# Altium schematic symbol library Regulators.SchLib: 376 symbols (part 4 of 4)
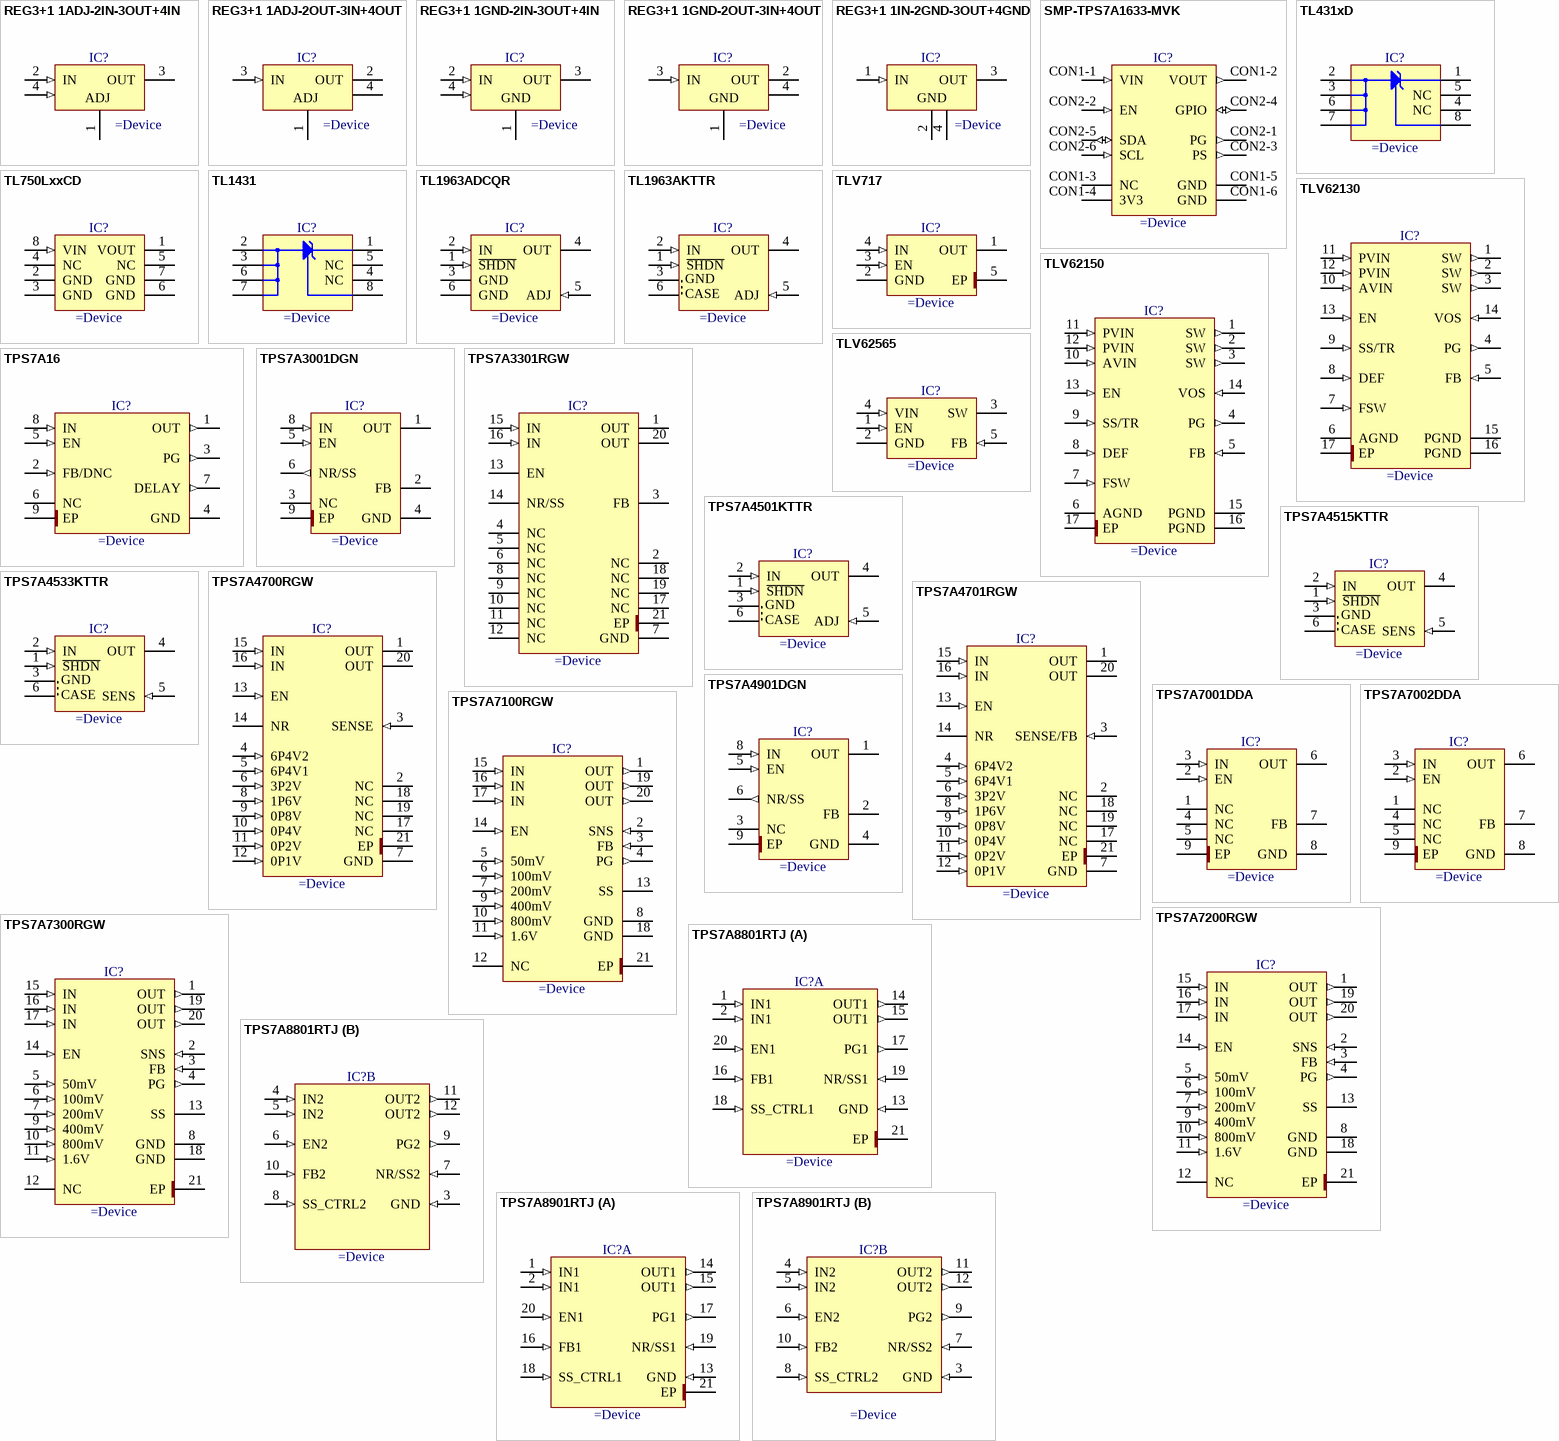
[diagram p15: symbols REG3+1 1ADJ-2IN-3OUT+4IN to TPS7A8901RTJ]

## TPS7A7200RGW
designator IC?
2-A, Fast-Transient, Low-Dropout Voltage Regulator
pins: 1 OUT (out), 2 SNS (in), 3 FB (in), 4 PG (out), 5 50mV (in), 6 100mV (in), 7 200mV (in), 8 GND (power), 9 400mV (in), 10 800mV (in), 11 1.6V (in), 12 NC, 13 SS, 14 EN (in), 15 IN (in), 16 IN (in), 17 IN (in), 18 GND (power), 19 OUT (out), 20 OUT (out), 21 EP (power)

## TPS7A7300RGW
designator IC?
3-A, Fast-Transient, Low-Dropout Voltage Regulator
pins: 1 OUT (out), 2 SNS (in), 3 FB (in), 4 PG (out), 5 50mV (in), 6 100mV (in), 7 200mV (in), 8 GND (power), 9 400mV (in), 10 800mV (in), 11 1.6V (in), 12 NC, 13 SS, 14 EN (in), 15 IN (in), 16 IN (in), 17 IN (in), 18 GND (power), 19 OUT (out), 20 OUT (out), 21 EP (power)

## TPS7A8801RTJ
designator IC?
Dual, 1-A, Low-Noise (3.8-μVRMS), Low-Dropout Voltage Regulator
part A pins: 1 IN1 (in), 2 IN1 (in), 13 GND (in), 14 OUT1 (out), 15 OUT1 (out), 16 FB1 (in), 17 PG1 (out), 18 SS_CTRL1 (in), 19 NR/SS1 (in), 20 EN1 (in), 21 EP (power)
part B pins: 3 GND (in), 4 IN2 (in), 5 IN2 (in), 6 EN2 (in), 7 NR/SS2 (in), 8 SS_CTRL2 (in), 9 PG2 (out), 10 FB2 (in), 11 OUT2 (out), 12 OUT2 (out)

## TPS7A8901RTJ
designator IC?
Dual, 1-A, Low-Noise (3.8-μVRMS), Low-Dropout Voltage Regulator
part A pins: 1 IN1 (in), 2 IN1 (in), 13 GND (in), 14 OUT1 (out), 15 OUT1 (out), 16 FB1 (in), 17 PG1 (out), 18 SS_CTRL1 (in), 19 NR/SS1 (in), 20 EN1 (in), 21 EP (power)
part B pins: 3 GND (in), 4 IN2 (in), 5 IN2 (in), 6 EN2 (in), 7 NR/SS2 (in), 8 SS_CTRL2 (in), 9 PG2 (out), 10 FB2 (in), 11 OUT2 (out), 12 OUT2 (out)

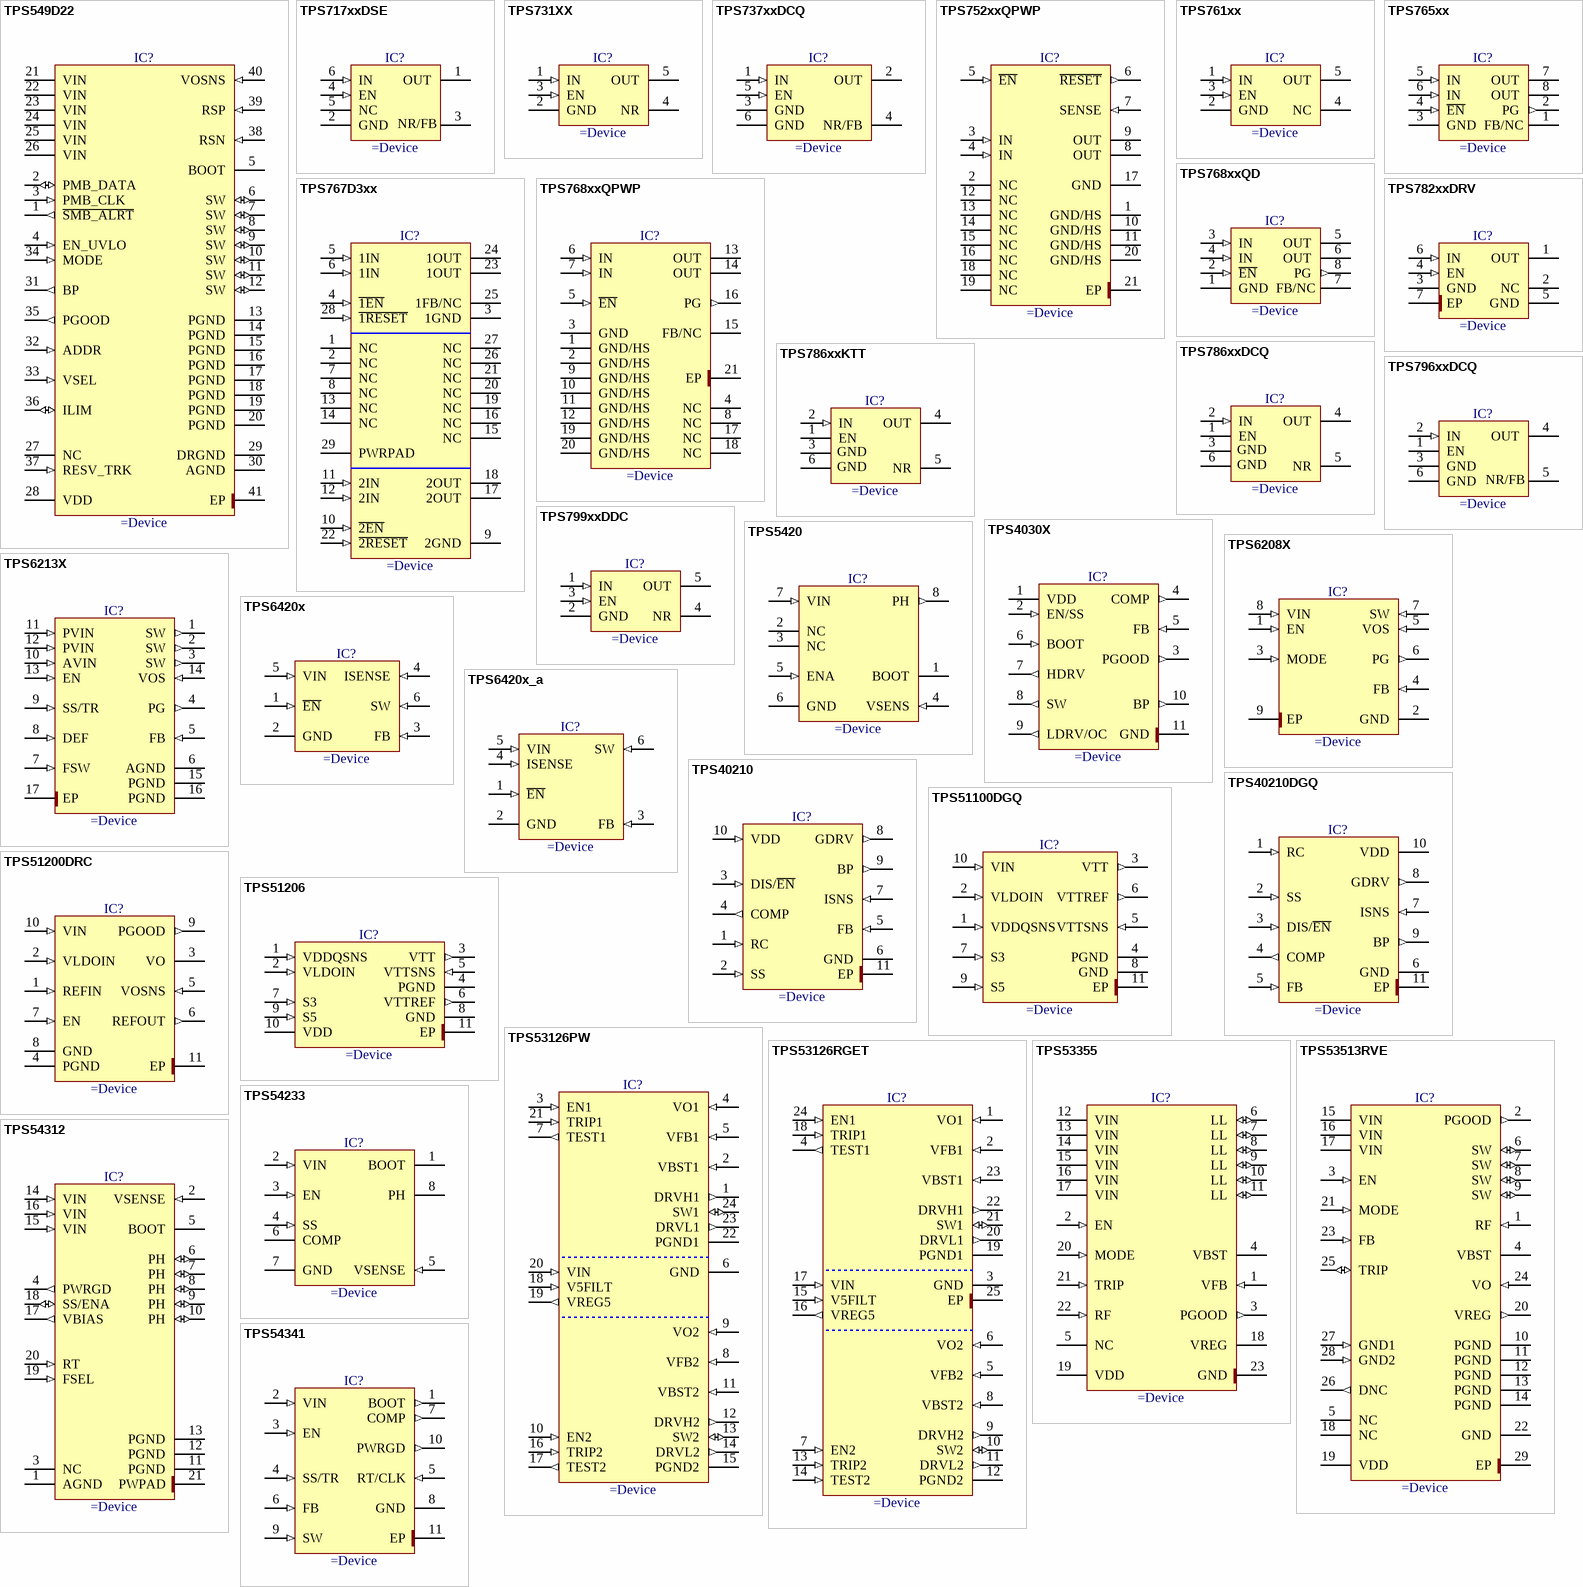
[diagram p10: symbols TPS549D22 to TPS54341]

## TPS549D22
designator IC?
1.5V to 16V Input, 40A SWIFT Synchronous Step-Down Converter With Full Differential Sense And PMBus
pins: 1 ~{SMB_ALRT} (out), 2 PMB_DATA (io), 3 PMB_CLK (in), 4 EN_UVLO (in), 5 BOOT (power), 6 SW (io), 7 SW (io), 8 SW (io), 9 SW (io), 10 SW (io), 11 SW (io), 12 SW (io), 13 PGND (power), 14 PGND (power), 15 PGND (power), 16 PGND (power), 17 PGND (power), 18 PGND (power), 19 PGND (power), 20 PGND (power), 21 VIN (power), 22 VIN (power), 23 VIN (power), 24 VIN (power), 25 VIN (power), 26 VIN (power), 27 NC, 28 VDD (power), 29 DRGND (power), 30 AGND (power), 31 BP (out), 32 ADDR (in), 33 VSEL (in), 34 MODE (in), 35 PGOOD (out), 36 ILIM (io), 37 RESV_TRK (in), 38 RSN (in), 39 RSP (in), 40 VOSNS (in), 41 EP (power)

## TPS717xxDSE
designator IC?
Low-Noise, High-PSRR, Low-Dropout 150mA Linear Regulator
pins: 1 OUT (power), 2 GND (power), 3 NR/FB, 4 EN (in), 5 NC, 6 IN (in)

## TPS731XX
designator IC?
150mA, Cap free, Low Dropout Regulator With Reverse Current Protection
pins: 1 IN (in), 2 GND (power), 3 EN (in), 4 NR, 5 OUT (power)

## TPS737xxDCQ
designator IC?
2.2V to 5.5V, 1-A Low-Dropout Regulator With Reverse Current Protection
pins: 1 IN (in), 2 OUT (power), 3 GND (power), 4 NR/FB, 5 EN (in), 6 GND (power)

## TPS752xxQPWP
designator IC?
Single Output, Fast Transient Response 2A Low-Dropout Voltage Regulator
pins: 1 GND/HS (power), 2 NC, 3 IN (in), 4 IN (in), 5 ~{EN} (in), 6 ~{RESET} (out), 7 SENSE (in), 8 OUT (power), 9 OUT (power), 10 GND/HS (power), 11 GND/HS (power), 12 NC, 13 NC, 14 NC, 15 NC, 16 NC, 17 GND (power), 18 NC, 19 NC, 20 GND/HS (power), 21 EP (power)

## TPS761xx
designator IC?
5V 100mA Low-Power Low-Dropout Linear Regulator
pins: 1 IN (in), 2 GND (power), 3 EN (in), 4 NC, 5 OUT (power)

## TPS765xx
designator IC?
Ultra-Low Quiescient Current 150mA Low-Dropout Voltage Regulator
pins: 1 FB/NC, 2 PG (out), 3 GND (power), 4 ~{EN} (in), 5 IN (in), 6 IN (in), 7 OUT (power), 8 OUT (power)

## TPS767D3xx
designator IC?
Dual-Output Low-Dropout Voltage Regulator
pins: 1 NC, 2 NC, 3 1GND (power), 4 ~{1EN} (in), 5 1IN (in), 6 1IN (in), 7 NC, 8 NC, 9 2GND (power), 10 ~{2EN} (in), 11 2IN (in), 12 2IN (in), 13 NC, 14 NC, 15 NC, 16 NC, 17 2OUT (power), 18 2OUT (power), 19 NC, 20 NC, 21 NC, 22 ~{2RESET} (in), 23 1OUT (power), 24 1OUT (power), 25 1FB/NC, 26 NC, 27 NC, 28 ~{1RESET} (in), 29 PWRPAD

## TPS768xxQD
designator IC?
1A Low-Dropout Voltage Regulator, Fast Transient Reponse
pins: 1 GND (power), 2 ~{EN} (in), 3 IN (in), 4 IN (in), 5 OUT (power), 6 OUT (power), 7 FB/NC, 8 PG (out)

## TPS768xxQPWP
designator IC?
1A Low-Dropout Voltage Regulator, Fast Transient Reponse
pins: 1 GND/HS (power), 2 GND/HS (power), 3 GND (power), 4 NC, 5 ~{EN} (in), 6 IN (in), 7 IN (in), 8 NC, 9 GND/HS (power), 10 GND/HS (power), 11 GND/HS (power), 12 GND/HS (power), 13 OUT (power), 14 OUT (power), 15 FB/NC, 16 PG (out), 17 NC, 18 NC, 19 GND/HS (power), 20 GND/HS (power), 21 EP (power)

## TPS782xxDRV
designator IC?
1.8V, 150mA, Ultra-Low Quiescent Current Low-Dropout Linear Regulator
pins: 1 OUT (power), 2 NC, 3 GND (power), 4 EN (in), 5 GND (power), 6 IN (in), 7 EP (power)

## TPS786xxDCQ
designator IC?
Ultralow-Noise, High-PSRR, Fast, RF, 1.5A Low-Dropout Linear Regulator
pins: 1 EN (power), 2 IN (in), 3 GND (power), 4 OUT (power), 5 NR, 6 GND (power)

## TPS786xxKTT
designator IC?
Ultralow-Noise, High-PSRR, Fast, RF, 1.5A Low-Dropout Linear Regulator
pins: 1 EN (power), 2 IN (in), 3 GND (power), 4 OUT (power), 5 NR, 6 GND (power)

## TPS796xxDCQ
designator IC?
Ultralow-Noise, High-PSRR, Fast, RF, 1A Low-Dropout Linear Regulator
pins: 1 EN (power), 2 IN (in), 3 GND (power), 4 OUT (power), 5 NR/FB, 6 GND (power)

## TPS799xxDDC
designator IC?
200mA, Low Quiescent Current, Ultra-Low Noise, High PSRR Low Dropout Linear Regulator
pins: 1 IN (in), 2 GND (power), 3 EN (in), 4 NR, 5 OUT (power)

## TPS4030X
designator IC?
3-V to 20-V Input Synchronous Buck Controller
pins: 1 VDD (power), 2 EN/SS (in), 3 PGOOD (out), 4 COMP (out), 5 FB (in), 6 BOOT (in), 7 HDRV (out), 8 SW (out), 9 LDRV/OC (out), 10 BP (out), 11 GND (power)

## TPS5420
designator IC?
2A, Wide Input Range, Step-Down SWIFT Converter
pins: 1 BOOT, 2 NC, 3 NC, 4 VSENS (in), 5 ENA (in), 6 GND (power), 7 VIN (in), 8 PH (out)

## TPS6208X
designator IC?
1.2-A High-Efficiency, Step-Down Converter With DCS-Control™ And Snooze Mode
pins: 1 EN (in), 2 GND (power), 3 MODE (in), 4 FB (in), 5 VOS (in), 6 PG (out), 7 SW (in), 8 VIN (in), 9 EP

## TPS6213X
designator IC?
3V-17V 3A Step-Down Converter In 3x3 QFN Package
pins: 1 SW (out), 2 SW (out), 3 SW (out), 4 PG (out), 5 FB (in), 6 AGND (power), 7 FSW (in), 8 DEF (in), 9 SS/TR (in), 10 AVIN (in), 11 PVIN (in), 12 PVIN (in), 13 EN (in), 14 VOS (in), 15 PGND (power), 16 PGND (power), 17 EP (power)

## TPS6420x
designator IC?
Step-Down Controller
pins: 1 ~{EN} (in), 2 GND (power), 3 FB (in), 4 ISENSE (in), 5 VIN (in), 6 SW (in)

## TPS6420x_a
designator IC?
Step-Down Controller
pins: 1 ~{EN} (in), 2 GND (power), 3 FB (in), 4 ISENSE (in), 5 VIN (in), 6 SW (in)

## TPS40210
designator IC?
Wide-Input Voltage (4.5V to 52V) Input Current Mode Boost Controller
pins: 1 RC (in), 2 SS (in), 3 DIS/~{EN} (in), 4 COMP (out), 5 FB (in), 6 GND (power), 7 ISNS (in), 8 GDRV (out), 9 BP (out), 10 VDD (in), 11 EP (power)

## TPS40210DGQ
designator IC?
4.5V To 52v Input Current Mode Boost Controller
pins: 1 RC (in), 2 SS (in), 3 DIS/~{EN} (in), 4 COMP (out), 5 FB (in), 6 GND (power), 7 ISNS (in), 8 GDRV (out), 9 BP (out), 10 VDD (power), 11 EP (power)

## TPS51100DGQ
designator IC?
3A Sink/Source DDR Termination Regulator
pins: 1 VDDQSNS (in), 2 VLDOIN (in), 3 VTT (out), 4 PGND (power), 5 VTTSNS (in), 6 VTTREF (out), 7 S3 (in), 8 GND (power), 9 S5 (in), 10 VIN (in), 11 EP (power)

## TPS51200DRC
designator IC?
Sink/Source DDR Termination Regulator
pins: 1 REFIN (in), 2 VLDOIN (in), 3 VO (power), 4 PGND (power), 5 VOSNS (in), 6 REFOUT (out), 7 EN (in), 8 GND (power), 9 PGOOD (out), 10 VIN (in), 11 EP (power)

## TPS51206
designator IC?
2-A Peak Sink / Source DDR Termination Regulator With VTTREF Buffered Reference for DDR2, DDR3 and DDR3L
pins: 1 VDDQSNS (in), 2 VLDOIN (in), 3 VTT (out), 4 PGND (power), 5 VTTSNS (in), 6 VTTREF (out), 7 S3 (in), 8 GND (power), 9 S5 (in), 10 VDD (power), 11 EP (power)

## TPS53126PW
designator IC?
Dual Synchronous Step-Down Controller For Low Voltage Power Rails
pins: 1 DRVH1 (out), 2 VBST1 (in), 3 EN1 (in), 4 VO1 (in), 5 VFB1 (in), 6 GND (power), 7 TEST1 (out), 8 VFB2 (in), 9 VO2 (in), 10 EN2 (in), 11 VBST2 (in), 12 DRVH2 (out), 13 SW2 (io), 14 DRVL2 (out), 15 PGND2 (power), 16 TRIP2 (in), 17 TEST2 (out), 18 V5FILT (in), 19 VREG5 (out), 20 VIN (in), 21 TRIP1 (in), 22 PGND1 (power), 23 DRVL1 (out), 24 SW1 (io)

## TPS53126RGET
designator IC?
Dual Synchronous Step-Down Controller For Low Voltage Power Rails
pins: 1 VO1 (in), 2 VFB1 (in), 3 GND (power), 4 TEST1 (out), 5 VFB2 (in), 6 VO2 (in), 7 EN2 (in), 8 VBST2 (in), 9 DRVH2 (out), 10 SW2 (io), 11 DRVL2 (out), 12 PGND2 (power), 13 TRIP2 (in), 14 TEST2 (in), 15 V5FILT (in), 16 VREG5 (out), 17 VIN (in), 18 TRIP1 (in), 19 PGND1 (power), 20 DRVL1 (out), 21 SW1 (io), 22 DRVH1 (out), 23 VBST1 (in), 24 EN1 (in), 25 EP (power)

## TPS53355
designator IC?
1.5V to 15V Input (4.5V to 25V Bias), 30A Synchronous Step-Down SWIFT™ Converter with Eco-mode™
pins: 1 VFB (in), 2 EN (in), 3 PGOOD (out), 4 VBST (power), 5 NC, 6 LL (io), 7 LL (io), 8 LL (io), 9 LL (io), 10 LL (io), 11 LL (io), 12 VIN (power), 13 VIN (power), 14 VIN (power), 15 VIN (power), 16 VIN (power), 17 VIN (power), 18 VREG (power), 19 VDD (power), 20 MODE (in), 21 TRIP (in), 22 RF (in), 23 GND (power)

## TPS53513RVE
designator IC?
1.5-V to 18-V (4.5-V to 25-V Bias) Input, 8-A, Single Synchronous Step-Down SWIFT™ Converter
pins: 1 RF (in), 2 PGOOD (out), 3 EN (in), 4 VBST (power), 5 NC, 6 SW (io), 7 SW (io), 8 SW (io), 9 SW (io), 10 PGND (power), 11 PGND (power), 12 PGND (power), 13 PGND (power), 14 PGND (power), 15 VIN (power), 16 VIN (power), 17 VIN (power), 18 NC, 19 VDD (power), 20 VREG (out), 21 MODE (in), 22 GND (power), 23 FB (in), 24 VO (in), 25 TRIP (io), 26 DNC (out), 27 GND1 (in), 28 GND2 (in), 29 EP (power)

## TPS54233
designator IC?
3.5 to 28V Input, 2A, 300kHz Step-Down Converter with Eco-mode
pins: 1 BOOT, 2 VIN (in), 3 EN (in), 4 SS (in), 5 VSENSE (in), 6 COMP, 7 GND (power), 8 PH (power)

## TPS54312
designator IC?
3V to 6V Input, 3A Output Synchronous-Buck PWM Switcher With Integrated FETs (SWIFT)
pins: 1 AGND (power), 2 VSENSE (in), 3 NC, 4 PWRGD (out), 5 BOOT, 6 PH (io), 7 PH (io), 8 PH (io), 9 PH (io), 10 PH (io), 11 PGND (power), 12 PGND (power), 13 PGND (power), 14 VIN (in), 15 VIN (in), 16 VIN (in), 17 VBIAS (out), 18 SS/ENA (io), 19 FSEL (in), 20 RT (in), 21 PWPAD (power)

## TPS54341
designator IC?
4.5V to 42V Input, 3.5-A Step-Down DC-DC Converter With Soft-Start And Eco-mode™
pins: 1 BOOT (out), 2 VIN (in), 3 EN (in), 4 SS/TR (in), 5 RT/CLK (in), 6 FB (in), 7 COMP (out), 8 GND (power), 9 SW (in), 10 PWRGD (out), 11 EP (power)

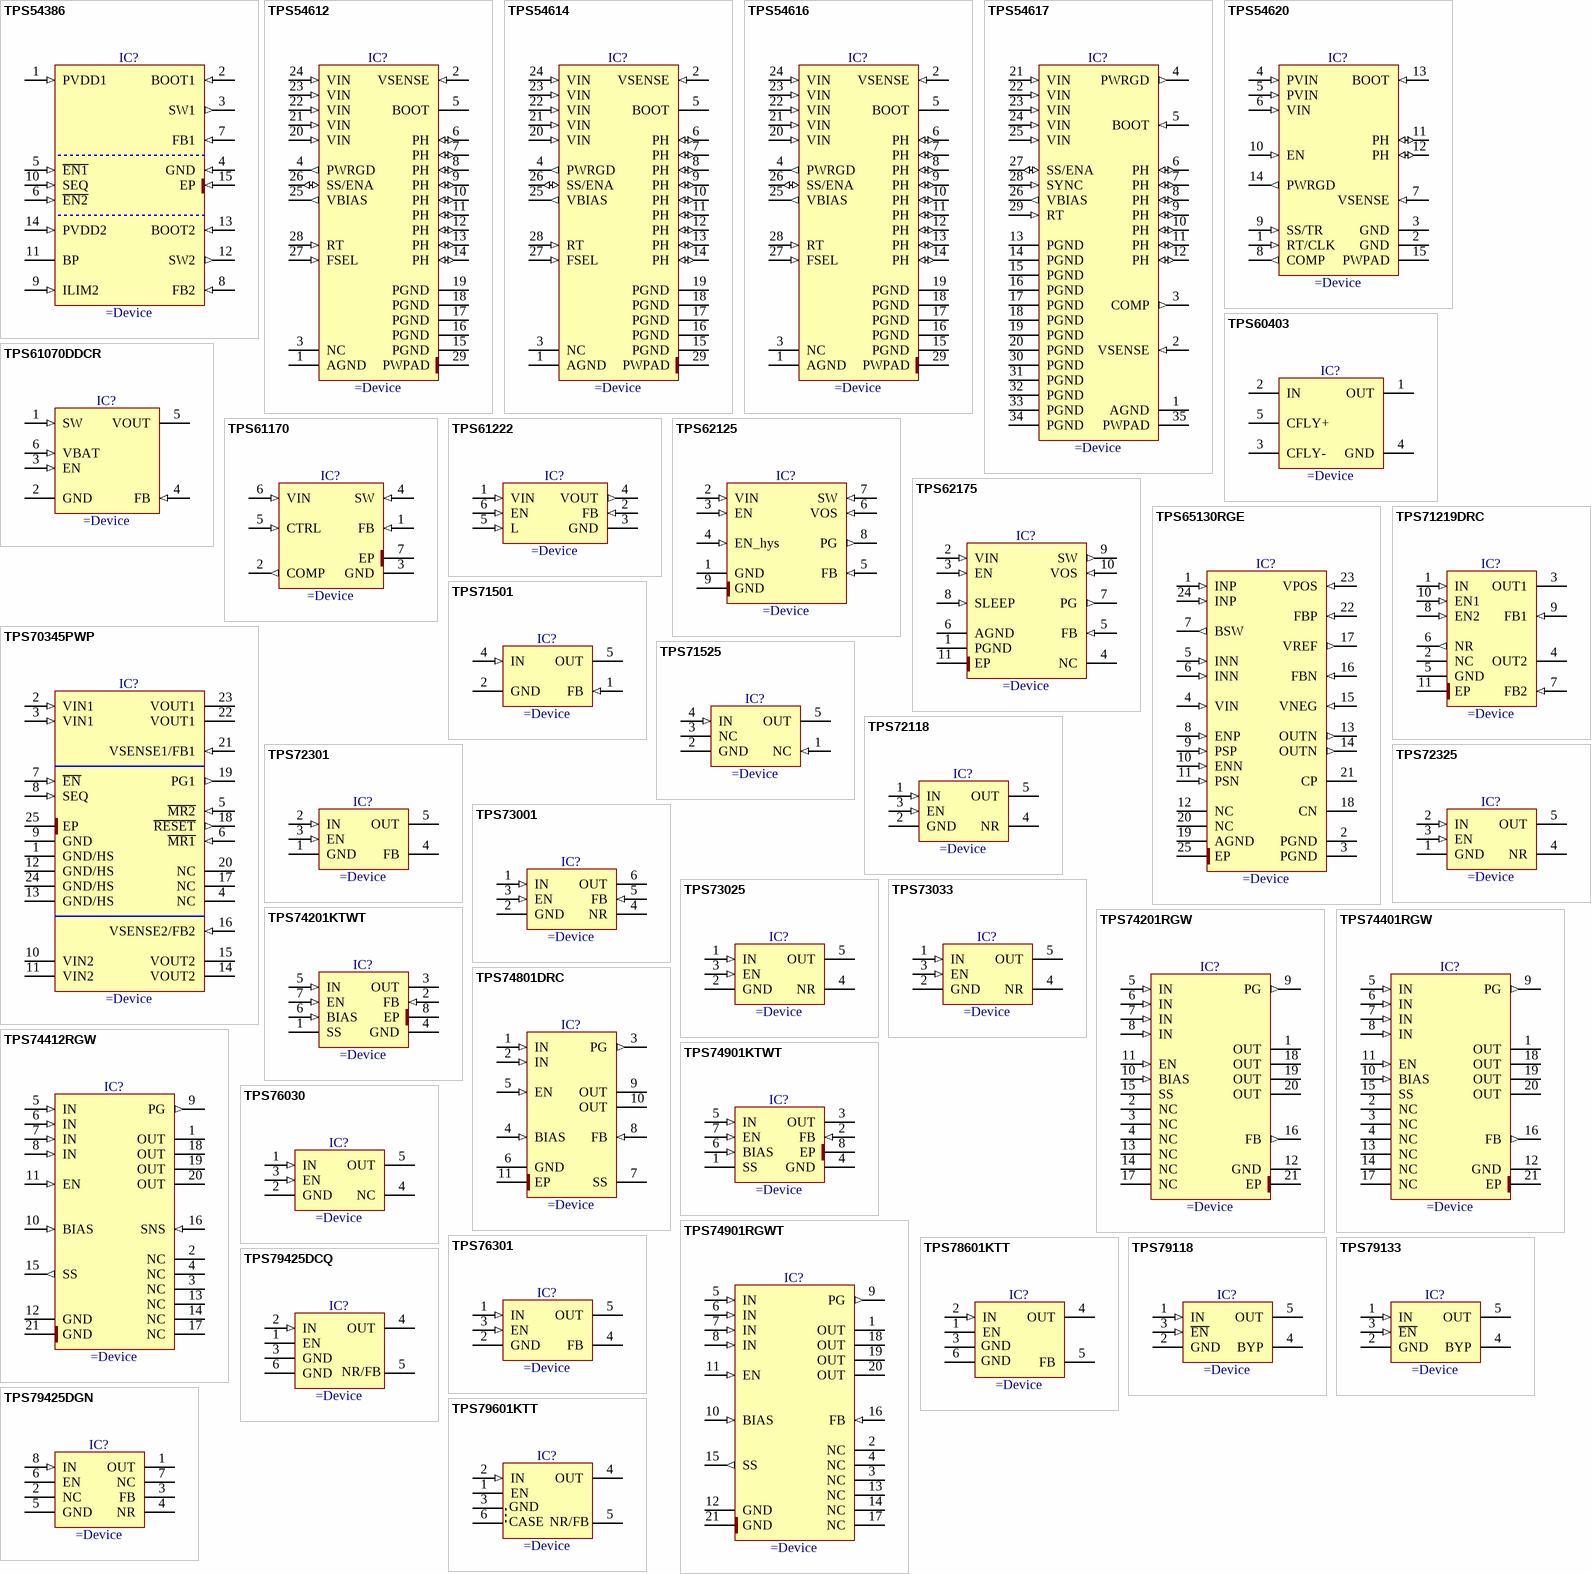
[diagram p11: symbols TPS54386 to TPS79601KTT]

## TPS54386
designator IC?
4.5V to 28V Input, Dual 3A Outputs, 600kHz Step-Down Converter with Internal Compensation
pins: 1 PVDD1 (in), 2 BOOT1 (in), 3 SW1 (out), 4 GND (in), 5 ~{EN1} (in), 6 ~{EN2} (in), 7 FB1 (in), 8 FB2 (in), 9 ILIM2 (in), 10 SEQ (in), 11 BP, 12 SW2 (out), 13 BOOT2 (in), 14 PVDD2 (in), 15 EP (in)

## TPS54612
designator IC?
4V to 6V, 6A Synchronous Step Down SWIFT Converter with 1.2V Output
pins: 1 AGND (power), 2 VSENSE (in), 3 NC, 4 PWRGD (out), 5 BOOT, 6 PH (io), 7 PH (io), 8 PH (io), 9 PH (io), 10 PH (io), 11 PH (io), 12 PH (io), 13 PH (io), 14 PH (io), 15 PGND (power), 16 PGND (power), 17 PGND (power), 18 PGND (power), 19 PGND (power), 20 VIN (in), 21 VIN (in), 22 VIN (in), 23 VIN (in), 24 VIN (in), 25 VBIAS (out), 26 SS/ENA (io), 27 FSEL (in), 28 RT (in), 29 PWPAD (power)

## TPS54614
designator IC?
3V to 6V Input, 1.8V 6A Output, Synchronous Buck PWM Switcher With Integrated FETs (SWIFT)
pins: 1 AGND (power), 2 VSENSE (in), 3 NC, 4 PWRGD (out), 5 BOOT, 6 PH (io), 7 PH (io), 8 PH (io), 9 PH (io), 10 PH (io), 11 PH (io), 12 PH (io), 13 PH (io), 14 PH (io), 15 PGND (power), 16 PGND (power), 17 PGND (power), 18 PGND (power), 19 PGND (power), 20 VIN (in), 21 VIN (in), 22 VIN (in), 23 VIN (in), 24 VIN (in), 25 VBIAS (out), 26 SS/ENA (io), 27 FSEL (in), 28 RT (in), 29 PWPAD (power)

## TPS54616
designator IC?
4V to 6V, 6A Synchronous Step Down SWIFT Converter with 3.3V Output
pins: 1 AGND (power), 2 VSENSE (in), 3 NC, 4 PWRGD (out), 5 BOOT, 6 PH (io), 7 PH (io), 8 PH (io), 9 PH (io), 10 PH (io), 11 PH (io), 12 PH (io), 13 PH (io), 14 PH (io), 15 PGND (power), 16 PGND (power), 17 PGND (power), 18 PGND (power), 19 PGND (power), 20 VIN (in), 21 VIN (in), 22 VIN (in), 23 VIN (in), 24 VIN (in), 25 VBIAS (out), 26 SS/ENA (io), 27 FSEL (in), 28 RT (in), 29 PWPAD (power)

## TPS54617
designator IC?
3V to 6V, 6A, 1.6MHz Step Down SWIFT Converter
pins: 1 AGND (power), 2 VSENSE (in), 3 COMP (out), 4 PWRGD (out), 5 BOOT (in), 6 PH (io), 7 PH (io), 8 PH (io), 9 PH (io), 10 PH (io), 11 PH (io), 12 PH (io), 13 PGND (power), 14 PGND (power), 15 PGND (power), 16 PGND (power), 17 PGND (power), 18 PGND (power), 19 PGND (power), 20 PGND (power), 21 VIN (in), 22 VIN (in), 23 VIN (in), 24 VIN (in), 25 VIN (in), 26 VBIAS (out), 27 SS/ENA (io), 28 SYNC (in), 29 RT (in), 30 PGND (power), 31 PGND (power), 32 PGND (power), 33 PGND (power), 34 PGND (power), 35 PWPAD (power)

## TPS54620
designator IC?
17V Input, 6A Output, Synchronous Step Down Switcher
pins: 1 RT/CLK (in), 2 GND (power), 3 GND (power), 4 PVIN (in), 5 PVIN (in), 6 VIN (in), 7 VSENSE (in), 8 COMP (out), 9 SS/TR (in), 10 EN (in), 11 PH (io), 12 PH (io), 13 BOOT (in), 14 PWRGD (out), 15 PWPAD (power)

## TPS60403
designator IC?
Unregulated 60-mA Charge Pump Voltage Inverter
pins: 1 OUT (power), 2 IN (power), 3 CFLY-, 4 GND (power), 5 CFLY+

## TPS61070DDCR
designator IC?
90% Efficient Synchronous Boost Converter With 600mA Switch
pins: 1 SW (in), 2 GND (power), 3 EN (in), 4 FB (in), 5 VOUT (power), 6 VBAT (in)

## TPS61170
designator IC?
3V to 18V Input, 3V to 38V Output, 1.2A High Voltage Boost Converter
pins: 1 FB (in), 2 COMP (out), 3 GND (power), 4 SW (in), 5 CTRL (in), 6 VIN (in), 7 EP (power)

## TPS61222
designator IC?
Low Input Voltage, 0.7V Boost Converter With 5.5uA Quiescent Current
pins: 1 VIN (in), 2 FB (in), 3 GND (power), 4 VOUT (out), 5 L (in), 6 EN (in)

## TPS62125
designator IC?
3-V to 17-V, 300-mA Step-Down Converter With Adjustable Enable Threshold and Hysteresis
pins: 1 GND (power), 2 VIN (in), 3 EN (in), 4 EN_hys (in), 5 FB (in), 6 VOS (in), 7 SW (in), 8 PG (out), 9 GND

## TPS62175
designator IC?
4.75-28VDC to 1-6VDC, 500mA Step-Down Converter With Sleep Mode
pins: 1 PGND (power), 2 VIN (in), 3 EN (in), 4 NC, 5 FB (in), 6 AGND (power), 7 PG (out), 8 SLEEP (in), 9 SW (out), 10 VOS (in), 11 EP (power) "Ground. Exposed pad must be soldered directly to local ground plane."

## TPS65130RGE
designator IC?
700mA, Dual Positive (+15V) and Negative (-15V) Outputs DC-DC Converter
pins: 1 INP (in), 2 PGND (power), 3 PGND (power), 4 VIN (in), 5 INN (in), 6 INN (in), 7 BSW (out), 8 ENP (in), 9 PSP (in), 10 ENN (in), 11 PSN (in), 12 NC, 13 OUTN (out), 14 OUTN (out), 15 VNEG (in), 16 FBN (in), 17 VREF (out), 18 CN, 19 AGND (power), 20 NC, 21 CP, 22 FBP (in), 23 VPOS (in), 24 INP (in), 25 EP (power)

## TPS70345PWP
designator IC?
Dual-Output Low-Dropout Voltage Regulator With Integrated SVS For Split Voltage System
pins: 1 GND/HS (power), 2 VIN1 (in), 3 VIN1 (in), 4 NC, 5 ~{MR2} (in), 6 ~{MR1} (in), 7 ~{EN} (in), 8 SEQ (in), 9 GND (power), 10 VIN2 (power), 11 VIN2 (power), 12 GND/HS (power), 13 GND/HS (power), 14 VOUT2 (power), 15 VOUT2 (power), 16 VSENSE2/FB2 (in), 17 NC, 18 ~{RESET} (out), 19 PG1 (out), 20 NC, 21 VSENSE1/FB1 (in), 22 VOUT1 (power), 23 VOUT1 (power), 24 GND/HS (power), 25 EP (power)

## TPS71219DRC
designator IC?
Dual 250 mA Output (1.8V Fixed and 1.2V to 5V Adjustable), UltraLow Noise, High PSRR, Low-Dropout Linear Regulator
pins: 1 IN (in), 2 NC, 3 OUT1 (power), 4 OUT2 (power), 5 GND (power), 6 NR (out), 7 FB2 (in), 8 EN2 (in), 9 FB1 (in), 10 EN1 (in), 11 EP (power)

## TPS71501
designator IC?
1.2V To 15V, 50mA Low-Dropout Adjustable Linear Regulator
pins: 1 FB (in), 2 GND (power), 4 IN (in), 5 OUT (power)

## TPS71525
designator IC?
2.5V, 50mA, 3.2-mA Supply Current, Low-Dropout Linear Regulator
pins: 1 NC (in), 2 GND (power), 3 NC, 4 IN (in), 5 OUT (power)

## TPS72118
designator IC?
1.8V, 150mA, Low Input Voltage, Cap Free, Low-Dropout Linear Regulateur
pins: 1 IN (in), 2 GND (power), 3 EN (in), 4 NR, 5 OUT (power)

## TPS72301
designator IC?
-2.7V To -10V, 200mA Adjustable, Low-Noise, High-PSRR Negative Output Low-Dropout Linear Regulators
pins: 1 GND (power), 2 IN (in), 3 EN (in), 4 FB, 5 OUT (power)

## TPS72325
designator IC?
2.5V, 200mA Low-Noise, High-PSRR Negative Output Low-Dropout Linear Regulators
pins: 1 GND (power), 2 IN (in), 3 EN (in), 4 NR, 5 OUT (power)

## TPS73001
designator IC?
Low Noise, High PSRR, 200mA, 1.22V to 5.5V Ajustable Low-Dropout Linear Regulator
pins: 1 IN (in), 2 GND (power), 3 EN (in), 4 NR, 5 FB (in), 6 OUT (power)

## TPS73025
designator IC?
Single Output LDO, 200mA, Fixed (2.5V), High PSRR, Low Noise
pins: 1 IN (in), 2 GND (power), 3 EN (in), 4 NR, 5 OUT (power)

## TPS73033
designator IC?
Single Output LDO, 200mA, Fixed (3.3V), High PSRR, Low Noise
pins: 1 IN (in), 2 GND (power), 3 EN (in), 4 NR, 5 OUT (power)

## TPS74201KTWT
designator IC?
0.8V to 5.5V, 1.5A Ultra-LDO Linear Regulator with Programmable Soft-Start
pins: 1 SS, 2 FB (in), 3 OUT (power), 4 GND (power), 5 IN (in), 6 BIAS (in), 7 EN (in), 8 EP (power)

## TPS74201RGW
designator IC?
Single Output LDO, 1.5A, Adj.(0.8 to 3.3V), Any or No Cap, Programmable Soft Start
pins: 1 OUT (power), 2 NC, 3 NC, 4 NC, 5 IN (in), 6 IN (in), 7 IN (in), 8 IN (in), 9 PG (out), 10 BIAS (in), 11 EN (in), 12 GND (power), 13 NC, 14 NC, 15 SS, 16 FB (out), 17 NC, 18 OUT (power), 19 OUT (power), 20 OUT (power), 21 EP (power)

## TPS74401RGW
designator IC?
Single Output LDO, 3.0A, Adj.(0.8 to 3.3V), Fast Transient Response, Programmable SoftStart
pins: 1 OUT (power), 2 NC, 3 NC, 4 NC, 5 IN (in), 6 IN (in), 7 IN (in), 8 IN (in), 9 PG (out), 10 BIAS (in), 11 EN (in), 12 GND (power), 13 NC, 14 NC, 15 SS, 16 FB (out), 17 NC, 18 OUT (power), 19 OUT (power), 20 OUT (power), 21 EP (power)

## TPS74412RGW
designator IC?
3A 1.2V Low-Dropout Linear Regulator with Programmable Soft-Start
pins: 1 OUT (power), 2 NC, 3 NC, 4 NC, 5 IN (in), 6 IN (in), 7 IN (in), 8 IN (in), 9 PG (out), 10 BIAS (in), 11 EN (in), 12 GND (power), 13 NC, 14 NC, 15 SS (out), 16 SNS (in), 17 NC, 18 OUT (power), 19 OUT (power), 20 OUT (power), 21 GND (power)

## TPS74801DRC
designator IC?
1.5A 0.8V to 3.6V Low-Dropout Linear Regulator with Programmable Soft-Start
pins: 1 IN (in), 2 IN (in), 3 PG (out), 4 BIAS (in), 5 EN (in), 6 GND (power), 7 SS, 8 FB (in), 9 OUT (power), 10 OUT (power), 11 EP (power)

## TPS74901KTWT
designator IC?
0.8V to 3.6V, 3.0A Low Dropout Linear Regulator with Programmable Soft-Start
pins: 1 SS, 2 FB (in), 3 OUT (power), 4 GND (power), 5 IN (in), 6 BIAS (in), 7 EN (in), 8 EP (power)

## TPS74901RGWT
designator IC?
3A, 0.8 to 3.6V Adjustable Low-Dropout Linear Regulator with Programmable Soft-Start
pins: 1 OUT (power), 2 NC, 3 NC, 4 NC, 5 IN (in), 6 IN (in), 7 IN (in), 8 IN (in), 9 PG (out), 10 BIAS (in), 11 EN (in), 12 GND (power), 13 NC, 14 NC, 15 SS (out), 16 FB (in), 17 NC, 18 OUT (power), 19 OUT (power), 20 OUT (power), 21 GND (power)

## TPS76030
designator IC?
3V 50mA Low-Power Low-Dropout Linear Regulator
pins: 1 IN (in), 2 GND (power), 3 EN (in), 4 NC, 5 OUT (power)

## TPS76301
designator IC?
1.5V to 6V, 150mA, Low-Dropout Linear Regulateur
pins: 1 IN (in), 2 GND (power), 3 EN (in), 4 FB, 5 OUT (power)

## TPS78601KTT
designator IC?
Ultralow-Noise, High-PSRR, Fast, RF, 1.5A Adjustable Low-Dropout Linear Regulator
pins: 1 EN (power), 2 IN (in), 3 GND (power), 4 OUT (power), 5 FB, 6 GND (power)

## TPS79118
designator IC?
1.8V, 100mA, Ultra Low Noise, High PSRR, Fast RF Low Dropout Linear Regulator
pins: 1 IN (in), 2 GND (power), 3 ~{EN} (in), 4 BYP, 5 OUT (power)

## TPS79133
designator IC?
3.3V, 100mA, Ultra Low Noise, High PSRR, Fast RF Low Dropout Linear Regulator
pins: 1 IN (in), 2 GND (power), 3 ~{EN} (in), 4 BYP, 5 OUT (power)

## TPS79425DCQ
designator IC?
2.5V Ultralow-Noise, High-PSRR, Fast, RF, 250mA Low-Dropout Linear Regulator
pins: 1 EN (power), 2 IN (in), 3 GND (power), 4 OUT (power), 5 NR/FB, 6 GND (power)

## TPS79425DGN
designator IC?
2.5V Ultralow-Noise, High-PSRR, Fast, RF, 250mA Low-Dropout Linear Regulator
pins: 1 OUT (power), 2 NC, 3 FB, 4 NR, 5 GND (power), 6 EN (power), 7 NC, 8 IN (in)

## TPS79601KTT
designator IC?
Ultralow-Noise, High-PSRR, Fast, RF, 1A Low-Dropout Linear Regulator
pins: 1 EN (power), 2 IN (in), 3 GND (power), 4 OUT (power), 5 NR/FB, 6 CASE (power)

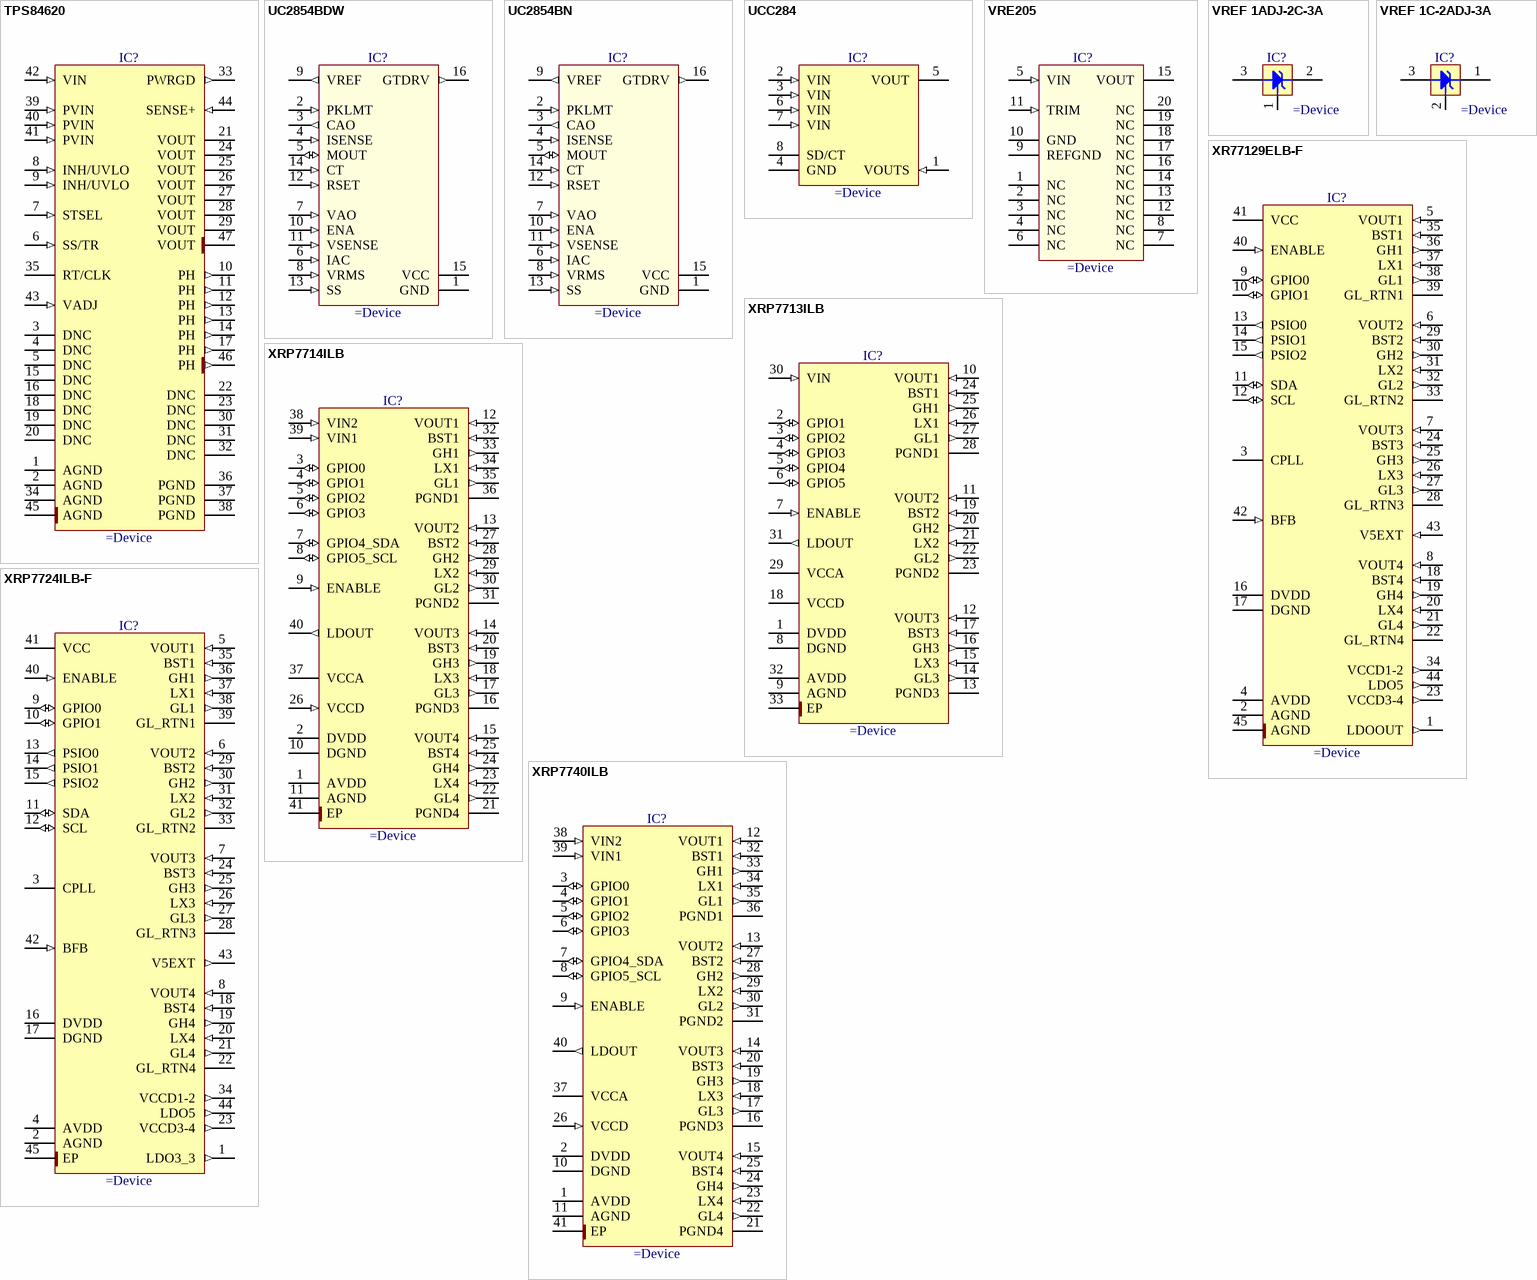
[diagram p12: symbols TPS84620 to XRP7740ILB]

## TPS84620
designator IC?
4.5V to 14.5V Input, 1.2V to 5.5V Output, 6-A Synchronous Buck, Integrated Power Solution
pins: 1 AGND (power), 2 AGND (power), 3 DNC, 4 DNC, 5 DNC, 6 SS/TR (in), 7 STSEL (in), 8 INH/UVLO (in), 9 INH/UVLO (in), 10 PH (out), 11 PH (out), 12 PH (out), 13 PH (out), 14 PH (out), 15 DNC, 16 DNC, 17 PH (out), 18 DNC, 19 DNC, 20 DNC, 21 VOUT (power), 22 DNC, 23 DNC, 24 VOUT (power), 25 VOUT (power), 26 VOUT (power), 27 VOUT (power), 28 VOUT (power), 29 VOUT (power), 30 DNC, 31 DNC, 32 DNC, 33 PWRGD (out), 34 AGND (power), 35 RT/CLK (oc), 36 PGND (power), 37 PGND (power), 38 PGND (power), 39 PVIN (in), 40 PVIN (in), 41 PVIN (in), 42 VIN (in), 43 VADJ (in), 44 SENSE+ (in), 45 AGND (power), 46 PH (out), 47 VOUT (power)

## UC2854BDW
designator IC?
Enhanced High Power Factor Preregulator
pins: 1 GND (power), 2 PKLMT (in), 3 CAO (out), 4 ISENSE (in), 5 MOUT (io), 6 IAC (in), 7 VAO (in), 8 VRMS (in), 9 VREF (out), 10 ENA (in), 11 VSENSE (in), 12 RSET (in), 13 SS (in), 14 CT (in), 15 VCC (power), 16 GTDRV (out)

## UC2854BN
designator IC?
Enhanced High Power Factor Preregulator
pins: 1 GND (power), 2 PKLMT (in), 3 CAO (out), 4 ISENSE (in), 5 MOUT (io), 6 IAC (in), 7 VAO (in), 8 VRMS (in), 9 VREF (out), 10 ENA (in), 11 VSENSE (in), 12 RSET (in), 13 SS (in), 14 CT (in), 15 VCC (power), 16 GTDRV (out)

## UCC284
designator IC?
5V, 500mA Low-Dropout Negative Linear Regulator
pins: 1 VOUTS (in), 2 VIN (in), 3 VIN (in), 4 GND (power), 5 VOUT (power), 6 VIN (in), 7 VIN (in), 8 SD/CT

## VRE205
designator IC?
Precision Surface Mount Reference Supply
pins: 1 NC, 2 NC, 3 NC, 4 NC, 5 VIN (in), 6 NC, 7 NC, 8 NC, 9 REFGND (power), 10 GND (power), 11 TRIM (in), 12 NC, 13 NC, 14 NC, 15 VOUT, 16 NC, 17 NC, 18 NC, 19 NC, 20 NC

## VREF 1ADJ-2C-3A
designator IC?
Precision Reference 1=Adj 2=Cathode 3=Anode
pins: 1 Adj, 2 C, 3 A

## VREF 1C-2ADJ-3A
designator IC?
Precision Reference 1=Cathode 2=Adj 3=Anode
pins: 1 C, 2 Adj, 3 A

## XR77129ELB-F
designator IC?
40V Quad Channel Digital PWM/PFM Universal PMIC
pins: 1 LDOOUT (out), 2 AGND (power), 3 CPLL, 4 AVDD (power), 5 VOUT1 (in), 6 VOUT2 (in), 7 VOUT3 (in), 8 VOUT4 (in), 9 GPIO0 (io), 10 GPIO1 (io), 11 SDA (io), 12 SCL (io), 13 PSIO0 (out), 14 PSIO1 (out), 15 PSIO2 (out), 16 DVDD (power), 17 DGND (power), 18 BST4 (in), 19 GH4 (out), 20 LX4 (in), 21 GL4 (out), 22 GL_RTN4 (power), 23 VCCD3-4 (out), 24 BST3 (in), 25 GH3 (out), 26 LX3 (in), 27 GL3 (out), 28 GL_RTN3 (power), 29 BST2 (in), 30 GH2 (out), 31 LX2 (in), 32 GL2 (out), 33 GL_RTN2 (power), 34 VCCD1-2 (out), 35 BST1 (in), 36 GH1 (out), 37 LX1 (in), 38 GL1 (out), 39 GL_RTN1 (power), 40 ENABLE (in), 41 VCC (power), 42 BFB (in), 43 V5EXT (in), 44 LDO5 (out), 45 AGND (power)

## XRP7713ILB
designator IC?
Three Channel Digital PWM Step Down Controller
pins: 1 DVDD (power), 2 GPIO1 (io), 3 GPIO2 (io), 4 GPIO3 (io), 5 GPIO4 (io), 6 GPIO5 (io), 7 ENABLE (in), 8 DGND (power), 9 AGND (power), 10 VOUT1 (in), 11 VOUT2 (in), 12 VOUT3 (in), 13 PGND3 (power), 14 GL3 (out), 15 LX3 (in), 16 GH3 (out), 17 BST3 (in), 18 VCCD (power), 19 BST2 (in), 20 GH2 (out), 21 LX2 (in), 22 GL2 (out), 23 PGND2 (power), 24 BST1 (in), 25 GH1 (out), 26 LX1 (in), 27 GL1 (out), 28 PGND1 (power), 29 VCCA (power), 30 VIN (in), 31 LDOUT (out), 32 AVDD (power), 33 EP (power)

## XRP7714ILB
designator IC?
Quad Channel Digital PWM Step Down Controller
pins: 1 AVDD (power), 2 DVDD (power), 3 GPIO0 (io), 4 GPIO1 (io), 5 GPIO2 (io), 6 GPIO3 (io), 7 GPIO4_SDA (io), 8 GPIO5_SCL (io), 9 ENABLE (in), 10 DGND (power), 11 AGND (power), 12 VOUT1 (in), 13 VOUT2 (in), 14 VOUT3 (in), 15 VOUT4 (in), 16 PGND3 (power), 17 GL3 (out), 18 LX3 (in), 19 GH3 (out), 20 BST3 (in), 21 PGND4 (power), 22 GL4 (out), 23 LX4 (in), 24 GH4 (out), 25 BST4 (in), 26 VCCD (in), 27 BST2 (in), 28 GH2 (out), 29 LX2 (in), 30 GL2 (out), 31 PGND2 (power), 32 BST1 (in), 33 GH1 (out), 34 LX1 (in), 35 GL1 (out), 36 PGND1 (power), 37 VCCA (power), 38 VIN2 (in), 39 VIN1 (in), 40 LDOUT (out), 41 EP (power)

## XRP7724ILB-F
designator IC?
Quad Channel Digital PWM/PFM Programmable Power Management System
pins: 1 LDO3_3 (out), 2 AGND (power), 3 CPLL, 4 AVDD (power), 5 VOUT1 (in), 6 VOUT2 (in), 7 VOUT3 (in), 8 VOUT4 (in), 9 GPIO0 (io), 10 GPIO1 (io), 11 SDA (io), 12 SCL (io), 13 PSIO0 (out), 14 PSIO1 (out), 15 PSIO2 (out), 16 DVDD (power), 17 DGND (power), 18 BST4 (in), 19 GH4 (out), 20 LX4 (in), 21 GL4 (out), 22 GL_RTN4 (power), 23 VCCD3-4 (out), 24 BST3 (in), 25 GH3 (out), 26 LX3 (in), 27 GL3 (out), 28 GL_RTN3 (power), 29 BST2 (in), 30 GH2 (out), 31 LX2 (in), 32 GL2 (out), 33 GL_RTN2 (power), 34 VCCD1-2 (out), 35 BST1 (in), 36 GH1 (out), 37 LX1 (in), 38 GL1 (out), 39 GL_RTN1 (power), 40 ENABLE (in), 41 VCC (power), 42 BFB (in), 43 V5EXT (out), 44 LDO5 (out), 45 EP (power)

## XRP7740ILB
designator IC?
Quad Channel Digital PWM Step Down Controller
pins: 1 AVDD (power), 2 DVDD (power), 3 GPIO0 (io), 4 GPIO1 (io), 5 GPIO2 (io), 6 GPIO3 (io), 7 GPIO4_SDA (io), 8 GPIO5_SCL (io), 9 ENABLE (in), 10 DGND (power), 11 AGND (power), 12 VOUT1 (in), 13 VOUT2 (in), 14 VOUT3 (in), 15 VOUT4 (in), 16 PGND3 (power), 17 GL3 (out), 18 LX3 (in), 19 GH3 (out), 20 BST3 (in), 21 PGND4 (power), 22 GL4 (out), 23 LX4 (in), 24 GH4 (out), 25 BST4 (in), 26 VCCD (in), 27 BST2 (in), 28 GH2 (out), 29 LX2 (in), 30 GL2 (out), 31 PGND2 (power), 32 BST1 (in), 33 GH1 (out), 34 LX1 (in), 35 GL1 (out), 36 PGND1 (power), 37 VCCA (power), 38 VIN2 (in), 39 VIN1 (in), 40 LDOUT (out), 41 EP (power)